# EAGLE library part LMC555 (library 1)
TI LMC555 Timer
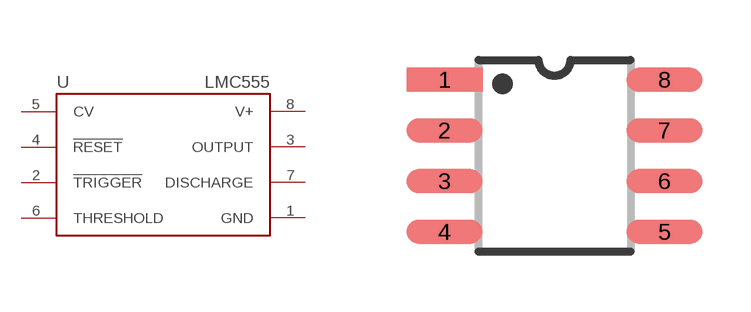
[diagram p23: symbol with the pads of SOIC-8; footprint SOIC-8]

Designator prefix -

## LMC555CMX  [SOIC-8]
1  GND
2  !TRIGGER
3  OUTPUT
4  !RESET
5  CV
6  THRESHOLD
7  DISCHARGE
8  V+

## Footprint SOIC-8 (pad centres in mm)
SOIC-8
smd 1.9 x 0.6: 1 -2.75,1.905; 2 -2.75,0.635; 3 -2.75,-0.635; 4 -2.75,-1.905; 5 2.75,-1.905; 6 2.75,-0.635; 7 2.75,0.635; 8 2.75,1.905